# EAGLE library part WI232 (library paparazzi)
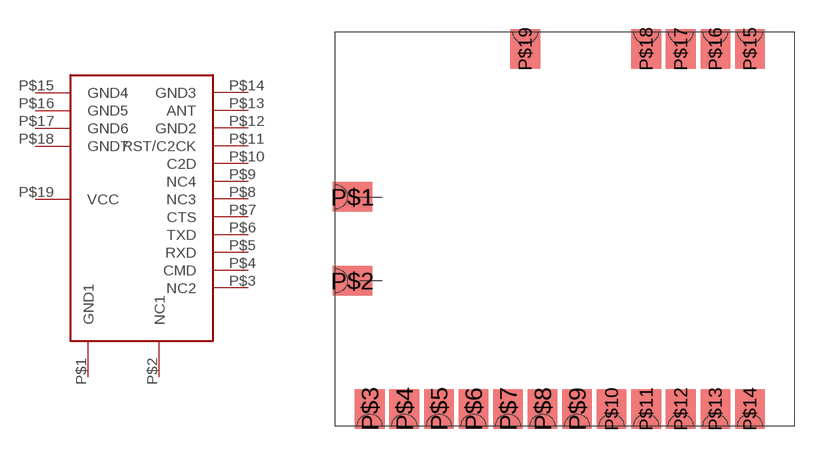
[diagram p43: symbol with the pads of WI_232_DTS; footprint WI_232_DTS]

Designator prefix -

## WI232  [WI_232_DTS]
P$1  GND1
P$2  NC1  nc
P$3  NC2  nc
P$4  CMD
P$5  RXD
P$6  TXD
P$7  CTS
P$8  NC3  nc
P$9  NC4  nc
P$10  C2D
P$11  RST/C2CK
P$12  GND2
P$13  ANT
P$14  GND3
P$15  GND4
P$16  GND5
P$17  GND6
P$18  GND7
P$19  VCC

## Footprint WI_232_DTS (pad centres in mm)
smd 2.032 x 1.524: P$1 -10.668,1.651; P$2 -10.668,-2.667
smd 1.524 x 2.032: P$3 -9.779,-9.271; P$4 -8.001,-9.271; P$5 -6.223,-9.271; P$6 -4.445,-9.271; P$7 -2.667,-9.271; P$8 -0.889,-9.271; P$9 0.889,-9.271; P$10 2.667,-9.271; P$11 4.445,-9.271; P$12 6.223,-9.271; P$13 8.001,-9.271; P$14 9.779,-9.271; P$15 9.779,9.271; P$16 8.001,9.271; P$17 6.223,9.271; P$18 4.445,9.271; P$19 -1.778,9.271